# EAGLE library part 7_SEGMENT_DISPLAY (library parts)
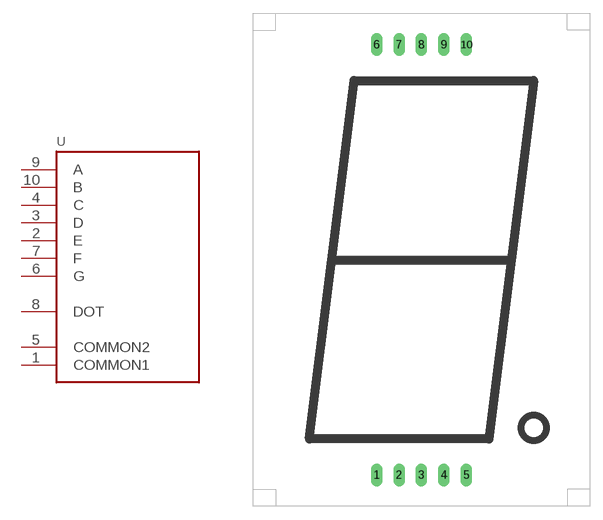
[diagram p0: symbol with the pads of 7_SEGMENT_1.8_INCH; footprint 7_SEGMENT_1.8_INCH]

Designator prefix -

## 7_SEGMENT_DISPLAY  [7_SEGMENT_1.8_INCH]
1  COMMON1
2  E
3  D
4  C
5  COMMON2
6  G
7  F
8  DOT
9  A
10  B

## Footprint 7_SEGMENT_1.8_INCH (pad centres in mm)
drill 0.813 long: 1 -5.08,-24.384; 2 -2.54,-24.384; 3 0,-24.384; 4 2.54,-24.384; 5 5.08,-24.384; 6 -5.08,24.384; 7 -2.54,24.384; 8 0,24.384; 9 2.54,24.384; 10 5.08,24.384